# Altium footprint library moteus_n1.PCBLIB: 34 footprints (part 2 of 3)
Each footprint in its own frame and in the unit in brackets; x right, y up, seen from the top. Pads: shape width x height; smd on the part's side, far side on the other; paste and mask are expansions set on the pad; w line width, h text height; cw(c..) or ccw(c..) is an arc to the next point about the centre after c.
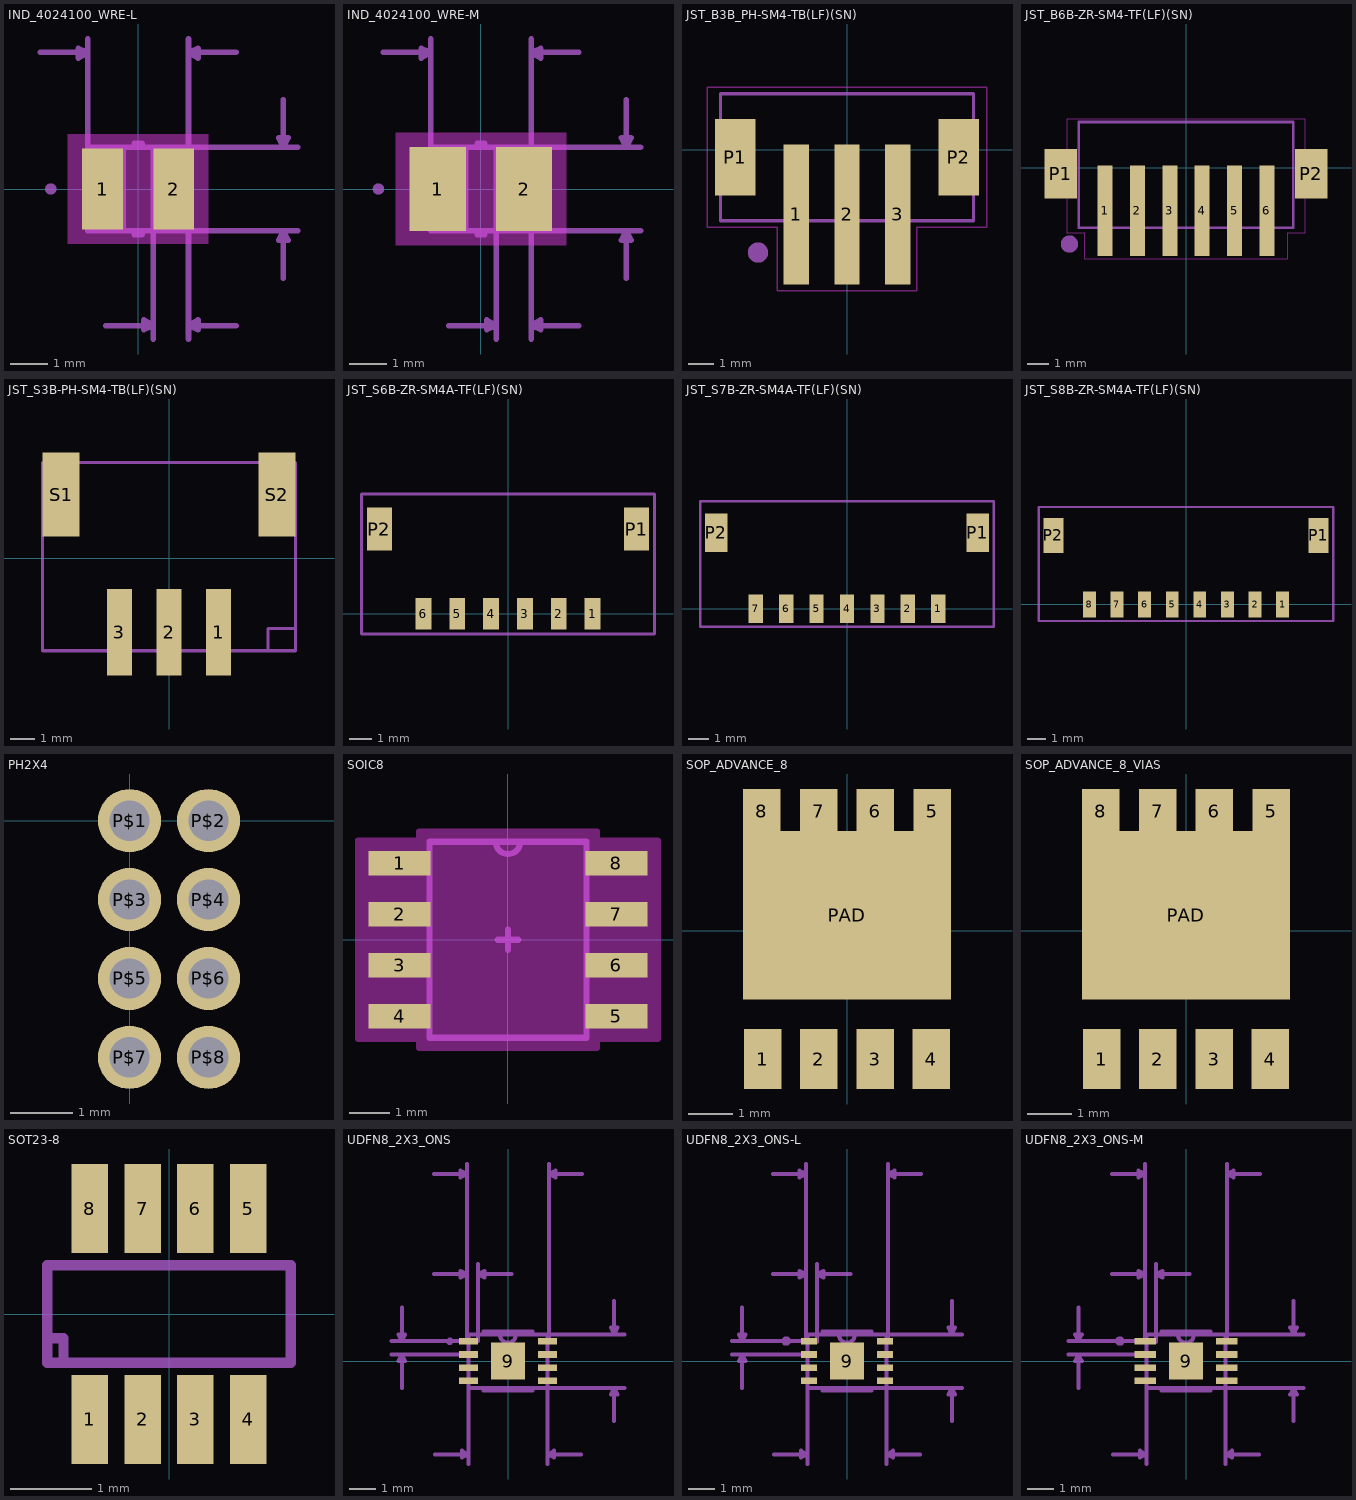
[diagram p1: the footprints below, top view; thin cyan lines are the x and y axes]

## IND_4024100_WRE-L [mil]
pads (2):
  rect 43x85 smd: 1(-37.5,0) 2(37.5,0)
Top keep-out:
  region: -74,-57.5 -74,57.5 74,57.5 74,-57.5
  region: -14,43.5 14,43.5 14,-43.5 -14,-43.5
  region: -14,41.5 14,41.5 14,-41.5 -14,-41.5
tDocu:
  lines w0: -36,0 ccw(c-33,0) -30,0 ccw(c-33,0) -36,0
  lines w6: -16,-44 -16,44 ; -16,-44 -53,-44 -53,44 -16,44 ; -16,-44 53,-44 53,-43 ; -16,44 16,44 ; 16,44 16,-43 53,-43 ; 16,44 53,44 53,-43
tPlace:
  lines w6: -4,-48 4,-48 ; -4,48 4,48 ; -95,0 ccw(c-92,0) -89,0 ccw(c-92,0) -95,0
Measures:
  lines w6: -103,144 -53,144 ; -53,0 -53,144 ; -53,158 -53,144 ; -34,-144 16,-144 ; 0,-44 153,-44 ; 0,44 153,44 ; 16,-158 16,-144 ; 16,0 16,-144 ; 53,-158 53,-144 ; 53,158 53,144 ; 103,-144 53,-144 ; 103,144 53,144 ; 153,-94 153,-44 ; 153,94 153,44 ; 168,-44 153,-44 ; 168,44 153,44 ; -53,144 -63,148 -63,138 -53,144 ; 16,-144 6,-138 6,-148 16,-144 ; 53,-144 53,144 ; 53,-144 63,-138 63,-148 53,-144 ; 53,144 63,148 63,138 53,144 ; 153,-44 148,-54 158,-54 153,-44 ; 153,44 148,54 158,54 153,44
  text "Default Padstyle: RX43Y85D0T" at -599,-312 h77.5
  text "Alternate 1 Padstyle: OX60Y90D30P" at -712,-412 h77.5
  text "Alternate 2 Padstyle: OX90Y60D30P" at -712,-512 h77.5
  text "0.087in/2.21mm" at 173,-12 h38.75
  text "0.106in/2.692mm" at -159,164 h38.75
  text "0.037in/0.94mm" at -113,-188 h38.75

## IND_4024100_WRE-M [mil]
pads (2):
  rect 59x89 smd: 1(-45.5,0) 2(45.5,0)
Top keep-out:
  region: -90,-59.5 -90,59.5 90,59.5 90,-59.5
  region: -14,43.5 14,43.5 14,-43.5 -14,-43.5
  region: -14,41.5 14,41.5 14,-41.5 -14,-41.5
tDocu:
  lines w0: -44,0 ccw(c-41,0) -38,0 ccw(c-41,0) -44,0
  lines w6: -16,-44 -16,44 ; -16,-44 -53,-44 -53,44 -16,44 ; -16,-44 53,-44 53,-43 ; -16,44 16,44 ; 16,44 16,-43 53,-43 ; 16,44 53,44 53,-43
tPlace:
  lines w6: -4,-48 4,-48 ; -4,48 4,48 ; -111,0 ccw(c-108,0) -105,0 ccw(c-108,0) -111,0
Measures:
  lines w6: -103,144 -53,144 ; -53,0 -53,144 ; -53,158 -53,144 ; -34,-144 16,-144 ; 0,-44 153,-44 ; 0,44 153,44 ; 16,-158 16,-144 ; 16,0 16,-144 ; 53,-158 53,-144 ; 53,158 53,144 ; 103,-144 53,-144 ; 103,144 53,144 ; 153,-94 153,-44 ; 153,94 153,44 ; 168,-44 153,-44 ; 168,44 153,44 ; -53,144 -63,148 -63,138 -53,144 ; 16,-144 6,-138 6,-148 16,-144 ; 53,-144 53,144 ; 53,-144 63,-138 63,-148 53,-144 ; 53,144 63,148 63,138 53,144 ; 153,-44 148,-54 158,-54 153,-44 ; 153,44 148,54 158,54 153,44
  text "Default Padstyle: RX59Y89D0T" at -599,-314 h77.5
  text "Alternate 1 Padstyle: OX60Y90D30P" at -712,-414 h77.5
  text "Alternate 2 Padstyle: OX90Y60D30P" at -712,-514 h77.5
  text "0.087in/2.21mm" at 173,-12 h38.75
  text "0.106in/2.692mm" at -159,164 h38.75
  text "0.037in/0.94mm" at -113,-188 h38.75

## JST_B3B_PH-SM4-TB(LF)(SN) [mm]
pads (5):
  rect 1x5.5 smd: 1(-2,-2.54) 2(0,-2.54) 3(2,-2.54)
  rect 1.6x3 smd: P1(-4.4,-0.29) P2(4.4,-0.29)
Top keep-out:
  lines w0.05: -5.5,-3.04 -2.75,-3.04 -2.75,-5.54 2.75,-5.54 2.75,-3.04 5.5,-3.04 5.5,2.46 -5.5,2.46 -5.5,-3.04
tDocu:
  lines w0.127: -4.975,-2.79 4.975,-2.79 4.975,2.21 -4.975,2.21 -4.975,-2.79
tPlace:
  circle w0.4: c-3.5,-4.04 r0.2
  lines w0.127: -4.975,-2.09 -4.975,-2.79 -2.8,-2.79 ; -4.975,1.51 -4.975,2.21 4.975,2.21 4.975,1.51 ; 2.8,-2.79 4.975,-2.79 4.975,-2.09

## JST_B6B-ZR-SM4-TF(LF)(SN) [mm]
pads (8):
  rect 0.7x4.2 smd: 1(-3.75,-2) 2(-2.25,-2) 3(-0.75,-2) 4(0.75,-2) 5(2.25,-2) 6(3.75,-2)
  rect 1.5x2.3 smd: P1(-5.8,-0.29) P2(5.8,-0.29)
Top keep-out:
  lines w0.05: -5.5,-3.04 -4.7,-3.04 -4.7,-4.24 4.7,-4.24 4.7,-3.04 5.5,-3.04 5.5,2.26 -5.5,2.26 -5.5,-3.04
tDocu:
  lines w0.127: -4.975,-2.79 4.975,-2.79 4.975,2.11 -4.975,2.11 -4.975,-2.79
tPlace:
  circle w0.4: c-5.4,-3.54 r0.2
  lines w0.127: -4.975,-2.09 -4.975,-2.79 -2.05,-2.79 ; -4.975,1.51 -4.975,2.11 4.975,2.11 4.975,1.51 ; 3.55,-2.79 4.975,-2.79 4.975,-2.09

## JST_S3B-PH-SM4-TB(LF)(SN) [mm]
pads (5):
  rect 1x3.5 smd: 1(2,-2.98) 2(0,-2.98) 3(-2,-2.98)
  rect 1.5x3.4 smd: S1(-4.35,2.57) S2(4.35,2.57)
tPlace:
  lines w0.127: 4,-3.73 -5.1,-3.73 -5.1,3.87 5.1,3.87 5.1,-2.83 ; 4,-3.73 5.1,-3.73 5.1,-2.83 ; 4,-3.73 4,-2.83 5.1,-2.83

## JST_S6B-ZR-SM4A-TF(LF)(SN) [mm]
pads (8):
  rect 0.7x1.4 smd: 1(3.75,0) 2(2.25,0) 3(0.75,0) 4(-0.75,0) 5(-2.25,0) 6(-3.75,0)
  rect 1.1x1.9 smd: P1(5.7,3.75) P2(-5.7,3.75)
tPlace:
  lines w0.127: -6.5,-0.9 6.5,-0.9 6.5,5.3 -6.5,5.3 -6.5,-0.9

## JST_S7B-ZR-SM4A-TF(LF)(SN) [mm]
pads (9):
  rect 0.7x1.4 smd: 1(4.5,0) 2(3,0) 3(1.5,0) 4(0,0) 5(-1.5,0) 6(-3,0) 7(-4.5,0)
  rect 1.1x1.9 smd: P1(6.45,3.75) P2(-6.45,3.75)
tPlace:
  lines w0.127: -7.25,-0.9 7.25,-0.9 7.25,5.3 -7.25,5.3 -7.25,-0.9

## JST_S8B-ZR-SM4A-TF(LF)(SN) [mil]
pads (10):
  rect 27.56x55.12 smd: 1(206.69,0) 2(147.64,0) 3(88.58,0) 4(29.53,0) 5(-29.53,0) 6(-88.58,0) 7(-147.64,0) 8(-206.69,0)
  rect 43.31x74.8 smd: P1(283.46,147.64) P2(-283.46,147.64)
tPlace:
  lines w5: -314.96,-35.43 314.96,-35.43 314.96,208.66 -314.96,208.66 -314.96,-35.43

## PH2X4 [mil]
pads (8):
  round 40 hole 25.59: P$1(0,0) P$2(50,0) P$3(0,-50) P$4(50,-50) P$5(0,-100) P$6(50,-100) P$7(0,-150) P$8(50,-150)

## SOIC8 [mil]
pads (8):
  rect 61x24 smd: 1(-106.3,75) 2(-106.3,25) 3(-106.3,-25) 4(-106.3,-75) 5(106.3,-75) 6(106.3,-25) 7(106.3,25) 8(106.3,75)
Top keep-out:
  region: -146.8,-97 -146.8,97 -87,97 -87,106.5 87,106.5 87,97 146.8,97 146.8,-97 87,-97 87,-106.5 -87,-106.5 -87,-97
  lines w6: -147,-97 -147,97 -87,97 -87,106 87,106 87,97 147,97 147,-97 87,-97 87,-106 -87,-106 -87,-97 -147,-97
tDocu:
  lines w6: -77,-96 -77,96 ; 77,-96 77,96
tPlace:
  lines w6: -77,-96 77,-96 ; -77,96 -12,96 ; 77,96 12,96 ; -12,96 12,96 ; -12,96 ccw(c0,96) 12,96
tOrigins:
  lines w6: -10,0 10,0 ; 0,-10 0,10

## SOP_ADVANCE_8 [mm]
pads (9):
  rect 0.85x1.35 smd: 1(-1.905,-2.9) 2(-0.635,-2.9) 3(0.635,-2.9) 4(1.905,-2.9)
  rect 0.85x1 smd: 5(1.925,2.7) 6(0.638,2.7) 7(-0.638,2.7) 8(-1.925,2.7)
  rect 4.7x3.8 smd: PAD(0,0.35)

## SOP_ADVANCE_8_VIAS [mm]
pads (9):
  rect 0.85x1.35 smd: 1(-1.905,-2.9) 2(-0.635,-2.9) 3(0.635,-2.9) 4(1.905,-2.9)
  rect 0.85x1 smd: 5(1.925,2.7) 6(0.638,2.7) 7(-0.638,2.7) 8(-1.925,2.7)
  rect 4.7x3.8 smd paste+0: PAD(0,0.35)
Top Paste:
  region: -1.45,2.2 -1.05,2.2 -1.05,-1.5 -1.45,-1.5
  region: -0.2,2.2 0.2,2.2 0.2,-1.5 -0.2,-1.5
  region: 1.05,2.2 1.45,2.2 1.45,-1.5 1.05,-1.5
  region: -2.3,-1.2 2.3,-1.2 2.3,-1.5 -2.3,-1.5
  region: -2.3,1.5 2.3,1.5 2.3,1.2 -2.3,1.2
  region: -2.3,0.6 2.3,0.6 2.3,0.3 -2.3,0.3
  region: -2.3,-0.3 2.3,-0.3 2.3,-0.6 -2.3,-0.6

## SOT23-8 [mil]
pads (8):
  rect 17.72x43.31 smd: 1(-38.39,-51.18) 2(-12.8,-51.18) 3(12.8,-51.18) 4(38.39,-51.18) 5(38.39,51.18) 6(12.8,51.18) 7(-12.8,51.18) 8(-38.39,51.18)
tPlace:
  lines w5: -59.06,-11.81 -59.06,23.62 59.06,23.62 59.06,-23.62 -51.18,-23.62 ; -59.06,-11.81 -59.06,-23.62 -51.18,-23.62 ; -59.06,-11.81 -51.18,-11.81 -51.18,-23.62

## UDFN8_2X3_ONS [mil]
pads (9):
  rect 28x10 smd: 1(-59,29.53) 2(-59,9.84) 3(-59,-9.84) 4(-59,-29.53) 5(59,-29.53) 6(59,-9.84) 7(59,9.84) 8(59,29.53)
  rect 51x55 smd: 9(0,0)
tDocu:
  lines w6: -12,39 ccw(c0,39.5) 12,40 ; 12,40 59,40 59,-40 -59,-40 -59,40 12,40
tPlace:
  lines w6: -86,27 cw(c-86.62,29.5) -86,32 ; -37,-44 37,-44 ; -37,44 37,44
Measures:
  lines w6: -174,10 -159,10 ; -174,30 -159,30 ; -159,-40 -159,10 ; -159,80 -159,30 ; -111,130 -61,130 ; -111,280 -61,280 ; -109,-140 -59,-140 ; -61,30 -61,130 ; -61,295 -61,280 ; -59,-154 -59,-140 ; -59,-40 -59,-140 ; -59,10 -159,10 ; -59,30 -159,30 ; -45,30 -45,130 ; -45,145 -45,130 ; 5,130 -45,130 ; 59,-154 59,-140 ; 59,40 159,40 ; 61,30 61,280 ; 61,295 61,280 ; 109,-140 59,-140 ; 111,280 61,280 ; 159,-90 159,-40 ; 159,90 159,40 ; 174,-40 159,-40 ; 174,40 159,40 ; -159,10 -164,0 -154,0 -159,10 ; -159,30 -164,40 -154,40 -159,30 ; -61,130 -61,280 ; -61,130 -71,135 -71,125 -61,130 ; -61,280 -71,285 -71,275 -61,280 ; -59,-140 -69,-134 -69,-144 -59,-140 ; -45,130 -35,135 -35,125 -45,130 ; 59,-140 59,-40 159,-40 ; 59,-140 69,-134 69,-144 59,-140 ; 61,280 71,285 71,275 61,280 ; 159,-40 154,-50 164,-50 159,-40 ; 159,40 154,50 164,50 159,40
  text "Default Padstyle: RX28Y10D0T" at -599,-410 h77.5
  text "Heat Tab Padstyle: RX51Y55D0T" at -636,-470 h77.5
  text "Alt 1 Padstyle: OX60Y90D30P" at -583,-590 h77.5
  text "Alt 2 Padstyle: OX90Y60D30P" at -583,-650 h77.5
  text "0.122in/3.099mm" at -159,300 h38.75
  text "0.016in/0.406mm" at -212,150 h38.75
  text "0.02in/0.5mm" at -429,7 h38.75
  text "0.079in/2.007mm" at 179,-12 h38.75
  text "0.118in/2.997mm" at -159,-184 h38.75

## UDFN8_2X3_ONS-L [mil]
pads (9):
  rect 24x10 smd: 1(-57,29.53) 2(-57,9.84) 3(-57,-9.84) 4(-57,-29.53) 5(57,-29.53) 6(57,-9.84) 7(57,9.84) 8(57,29.53)
  rect 51x55 smd: 9(0,0)
tDocu:
  lines w0: -48,30 ccw(c-45,30) -42,30 ccw(c-45,30) -48,30
  lines w6: -12,39 ccw(c0,39.5) 12,40 ; 12,40 59,40 59,-40 -59,-40 -59,40 12,40
tPlace:
  lines w6: -37,-44 37,-44 ; -37,44 37,44 ; -95,30 ccw(c-91,30) -87,30 ccw(c-91,30) -95,30
Measures:
  lines w6: -172,10 -157,10 ; -172,30 -157,30 ; -157,-40 -157,10 ; -157,80 -157,30 ; -111,130 -61,130 ; -111,280 -61,280 ; -109,-140 -59,-140 ; -61,30 -61,130 ; -61,295 -61,280 ; -59,-154 -59,-140 ; -59,-40 -59,-140 ; -57,10 -157,10 ; -57,30 -157,30 ; -45,30 -45,130 ; -45,145 -45,130 ; 5,130 -45,130 ; 59,-154 59,-140 ; 59,40 157,40 ; 61,30 61,280 ; 61,295 61,280 ; 109,-140 59,-140 ; 111,280 61,280 ; 157,-90 157,-40 ; 157,90 157,40 ; 172,-40 157,-40 ; 172,40 157,40 ; -157,10 -162,0 -152,0 -157,10 ; -157,30 -162,40 -152,40 -157,30 ; -61,130 -61,280 ; -61,130 -71,135 -71,125 -61,130 ; -61,280 -71,285 -71,275 -61,280 ; -59,-140 -69,-134 -69,-144 -59,-140 ; -45,130 -35,135 -35,125 -45,130 ; 59,-140 59,-40 157,-40 ; 59,-140 69,-134 69,-144 59,-140 ; 61,280 71,285 71,275 61,280 ; 157,-40 152,-50 162,-50 157,-40 ; 157,40 152,50 162,50 157,40
  text "Default Padstyle: RX24Y10D0T" at -599,-410 h77.5
  text "Heat Tab Padstyle: RX51Y55D0T" at -636,-470 h77.5
  text "Alt 1 Padstyle: OX60Y90D30P" at -583,-590 h77.5
  text "Alt 2 Padstyle: OX90Y60D30P" at -583,-650 h77.5
  text "0.122in/3.099mm" at -159,300 h38.75
  text "0.016in/0.406mm" at -212,150 h38.75
  text "0.02in/0.5mm" at -427,7 h38.75
  text "0.079in/2.007mm" at 177,-12 h38.75
  text "0.118in/2.997mm" at -159,-184 h38.75

## UDFN8_2X3_ONS-M [mil]
pads (9):
  rect 32x10 smd: 1(-61,29.53) 2(-61,9.84) 3(-61,-9.84) 4(-61,-29.53) 5(61,-29.53) 6(61,-9.84) 7(61,9.84) 8(61,29.53)
  rect 51x55 smd: 9(0,0)
tDocu:
  lines w0: -48,30 ccw(c-45,30) -42,30 ccw(c-45,30) -48,30
  lines w6: -12,39 ccw(c0,39.5) 12,40 ; 12,40 59,40 59,-40 -59,-40 -59,40 12,40
tPlace:
  lines w6: -37,-44 37,-44 ; -37,44 37,44 ; -103,30 ccw(c-99,30) -95,30 ccw(c-99,30) -103,30
Measures:
  lines w6: -176,10 -161,10 ; -176,30 -161,30 ; -161,-40 -161,10 ; -161,80 -161,30 ; -111,130 -61,130 ; -111,280 -61,280 ; -109,-140 -59,-140 ; -61,10 -161,10 ; -61,295 -61,280 ; -59,-154 -59,-140 ; -59,-40 -59,-140 ; -45,30 -45,130 ; -45,145 -45,130 ; 5,130 -45,130 ; 59,-154 59,-140 ; 59,40 161,40 ; 61,30 61,280 ; 61,295 61,280 ; 109,-140 59,-140 ; 111,280 61,280 ; 161,-90 161,-40 ; 161,90 161,40 ; 176,-40 161,-40 ; 176,40 161,40 ; -161,10 -166,0 -156,0 -161,10 ; -161,30 -61,30 -61,130 ; -161,30 -166,40 -156,40 -161,30 ; -61,130 -61,280 ; -61,130 -71,135 -71,125 -61,130 ; -61,280 -71,285 -71,275 -61,280 ; -59,-140 -69,-134 -69,-144 -59,-140 ; -45,130 -35,135 -35,125 -45,130 ; 59,-140 59,-40 161,-40 ; 59,-140 69,-134 69,-144 59,-140 ; 61,280 71,285 71,275 61,280 ; 161,-40 156,-50 166,-50 161,-40 ; 161,40 156,50 166,50 161,40
  text "Default Padstyle: RX32Y10D0T" at -599,-410 h77.5
  text "Heat Tab Padstyle: RX51Y55D0T" at -636,-470 h77.5
  text "Alt 1 Padstyle: OX60Y90D30P" at -583,-590 h77.5
  text "Alt 2 Padstyle: OX90Y60D30P" at -583,-650 h77.5
  text "0.122in/3.099mm" at -159,300 h38.75
  text "0.016in/0.406mm" at -212,150 h38.75
  text "0.02in/0.5mm" at -431,7 h38.75
  text "0.079in/2.007mm" at 181,-12 h38.75
  text "0.118in/2.997mm" at -159,-184 h38.75